# Altium schematic symbol library U_MAX31740.SchLib: 1 symbol
Pins are listed as number, name and electrical type; pins without a type are passive.

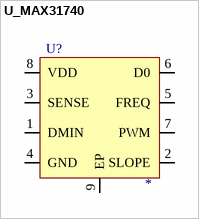
[diagram p0: symbol U_MAX31740]

## U_MAX31740
designator U?
pins: 1 DMIN, 2 SLOPE, 3 SENSE, 4 GND, 5 FREQ, 6 D0, 7 PWM, 8 VDD, 9 EP